# Altium schematic symbol library rest.SCHLIB: 42 symbols
Pins are listed as number, name and electrical type; pins without a type are passive.

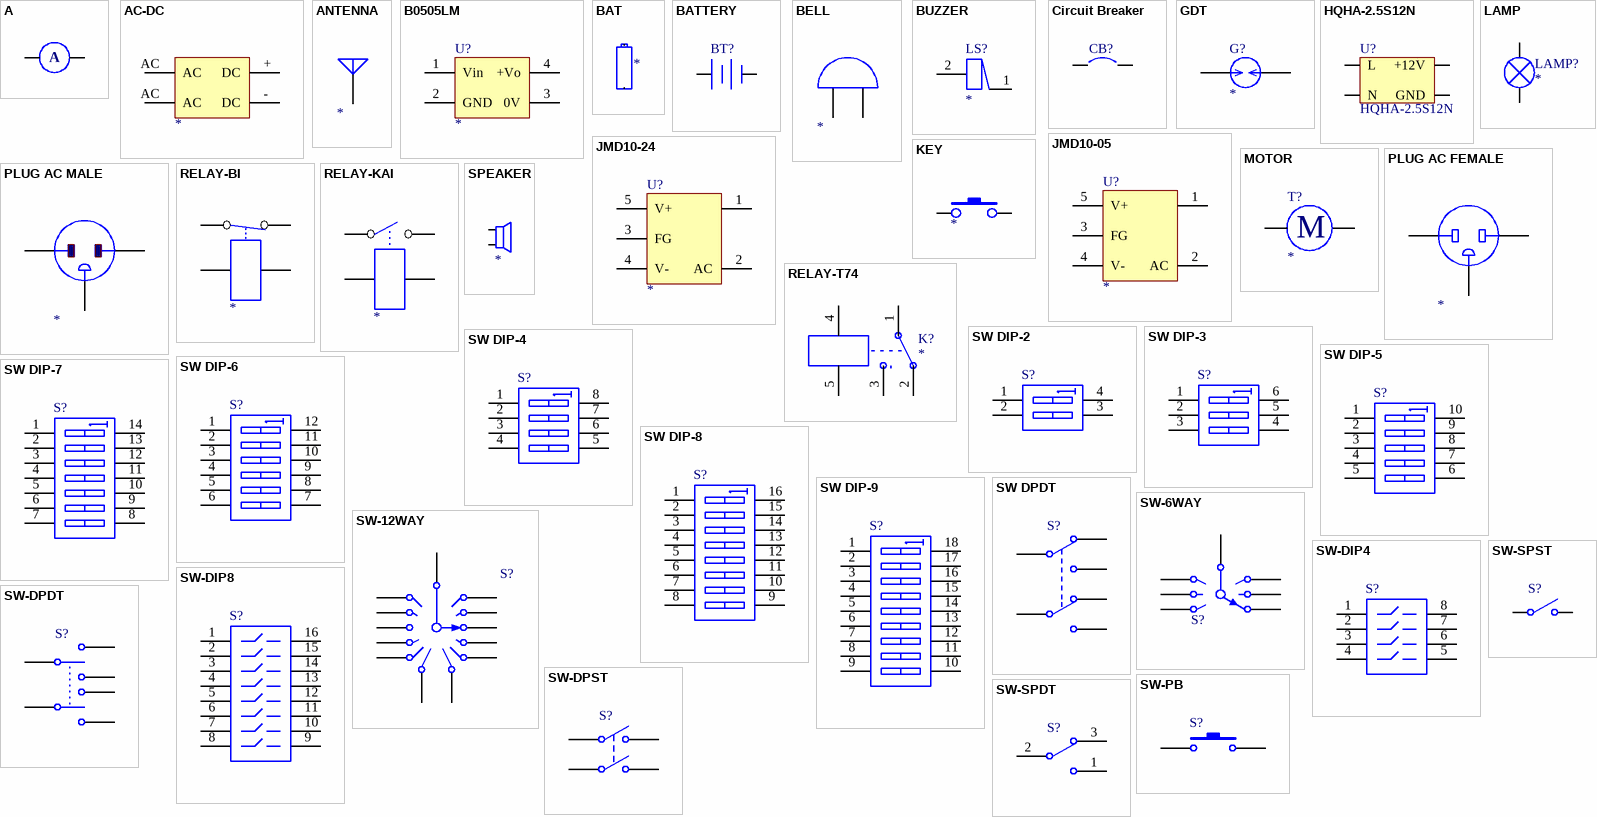
[diagram p0: symbols A to SW-SPST]

## A
designator A  (value not drawn)
pins: 1, 2

## AC-DC
designator ?
pins: + DC, - DC, AC, AC

## ANTENNA
designator ?
pins: 1 A

## B0505LM
designator U?
DC/DC隔离电源（Mornsun）
footprint B0505LM
pins: 1 Vin, 2 GND, 3 0V, 4 +Vo

## BAT
designator ?
pins: 1, 2, DC hidden to DC

## BATTERY
designator BT?
Multicell Battery; Published: 24-Mar-1999; LatestRevisionDate: 17-Jul-2002; LatestRevisionNote: Re-released for DXP Platform.; PackageReference: BAT-2; Publisher: Altium Limited
footprint BAT-2 (Multicell Battery; 2 Leads)
pins: 1 +, 2 -

## BELL
designator ?
pins: 1 A, 2 B

## BUZZER
designator LS?
footprint 24V-BUZZER
pins: 1 +, 2 -

## Circuit Breaker
designator CB?
Circuit Breaker; Published: 24-Mar-1999; LatestRevisionDate: 17-Jul-2002; LatestRevisionNote: Re-released for DXP Platform.; PackageReference: SPST-2; Publisher: Altium Limited
footprint SPST-2 (Circuit Breaker; 2 Leads)
pins: 1, 2

## GDT
designator G?
放电器
footprint GDT2
pins: 1, 2

## HQHA-2.5S12N
designator U?
Power
pins: 1 L, 2 N, 3 +12V, 4 GND

## JMD10-05
designator U?
CM-JMD10-05
pins: 1 AC, 2 AC, 3 FG, 4 V-, 5 V+

## JMD10-24
designator U?
CM-JMD10-24
pins: 1 AC, 2 AC, 3 FG, 4 V-, 5 V+

## KEY
designator ?
pins: 1, 2

## LAMP
designator LAMP?
pins: 1, 2

## MOTOR
designator T?
pins: 1, 2
text: M

## PLUG AC FEMALE
designator ?
pins: 1 A, 2 B, 3 GND

## PLUG AC MALE
designator ?
pins: 1 A, 2 B, 3 GND

## RELAY-BI
designator ?
pins: 1, 2, 3, 4

## RELAY-KAI
designator ?
pins: 1, 2, 3, 4

## RELAY-T74
designator K?
CN-RELAY-T74
footprint RELAY-T74
pins: 1, 2, 3, 4, 5

## SPEAKER
designator ?
pins: 1, 2

## SW DIP-2
designator S?
DIP Switch, 2 Position, SPST; Published: 24-Mar-1999; LatestRevisionDate: 17-Jul-2002; LatestRevisionNote: Re-released for DXP Platform.; PackageReference: DIP-4; Publisher: Altium Limited
footprint DIP-4 (DIP; 4 Leads; Row Spacing 7.62 mm; Pitch 2.54 mm)
simulation model dpsw2 (Spice Subcircuit)
pins: 1 A1, 2 A2, 3 B2, 4 B1

## SW DIP-3
designator S?
DIP Switch, 3 Position, SPST; Published: 24-Mar-1999; LatestRevisionDate: 17-Jul-2002; LatestRevisionNote: Re-released for DXP Platform.; PackageReference: DIP-6; Publisher: Altium Limited; Code_JEDEC: MO-001-AM
footprint DIP-6 (DIP; 6 Leads; Row Spacing 7.62 mm; Pitch 2.54 mm)
simulation model dpsw3 (Spice Subcircuit)
pins: 1 A1, 2 A2, 3 A3, 4 B3, 5 B2, 6 B1

## SW DIP-4
designator S?
DIP Switch, 4 Position, SPST; Published: 24-Mar-1999; LatestRevisionDate: 17-Jul-2002; LatestRevisionNote: Re-released for DXP Platform.; PackageReference: SO8; Publisher: Altium Limited; Code_JEDEC: MS-012-AA; Code_IPC: SO8
footprint SO8 (Small Outline; 8 Leads; Body Width 3.9 mm; Pitch 1.27 mm)
simulation model dpsw4 (Spice Subcircuit)
pins: 1 A1, 2 A2, 3 A3, 4 A4, 5 B4, 6 B3, 7 B2, 8 B1

## SW DIP-5
designator S?
DIP Switch, 5 Position, SPST; Published: 24-Mar-1999; LatestRevisionDate: 17-Jul-2002; LatestRevisionNote: Re-released for DXP Platform.; PackageReference: N10A; Publisher: Altium Limited
footprint N10A (DIP; 10 Leads; Row Spacing 7.62 mm; Pitch 2.54 mm)
simulation model dpsw5 (Spice Subcircuit)
pins: 1 A1, 2 A2, 3 A3, 4 A4, 5 A5, 6 B5, 7 B4, 8 B3, 9 B2, 10 B1

## SW DIP-6
designator S?
DIP Switch, 6 Position, SPST; Published: 24-Mar-1999; LatestRevisionDate: 17-Jul-2002; LatestRevisionNote: Re-released for DXP Platform.; PackageReference: DIP-12/SW; Publisher: Altium Limited
footprint DIP-12/SW (DIP Switch; 12 Leads)
simulation model dpsw6 (Spice Subcircuit)
pins: 1 A1, 2 A2, 3 A3, 4 A4, 5 A5, 6 A6, 7 B6, 8 B5, 9 B4, 10 B3, 11 B2, 12 B1

## SW DIP-7
designator S?
DIP Switch, 7 Position, SPST; Published: 24-Mar-1999; LatestRevisionDate: 17-Jul-2002; LatestRevisionNote: Re-released for DXP Platform.; PackageReference: DIP-14; Publisher: Altium Limited; Code_JEDEC: MO-001-AF
footprint DIP-14 (DIP; 14 Leads; Row Spacing 7.62 mm; Pitch 2.54 mm)
simulation model dpsw7 (Spice Subcircuit)
pins: 1 A1, 2 A2, 3 A3, 4 A4, 5 A5, 6 A6, 7 A7, 8 B7, 9 B6, 10 B5, 11 B4, 12 B3, 13 B2, 14 B1

## SW DIP-8
designator S?
DIP Switch, 8 Position, SPST; Published: 24-Mar-1999; LatestRevisionDate: 17-Jul-2002; LatestRevisionNote: Re-released for DXP Platform.; PackageReference: DIP_SW_8WAY_SMD; Publisher: Altium Limited
footprint DIP_SW_8WAY_SMD (DIP Switch; 16 Leads)
simulation model dpsw8 (Spice Subcircuit)
pins: 1 A1, 2 A2, 3 A3, 4 A4, 5 A5, 6 A6, 7 A7, 8 A8, 9 B8, 10 B7, 11 B6, 12 B5, 13 B4, 14 B3, 15 B2, 16 B1

## SW DIP-9
designator S?
DIP Switch, 9 Position, SPST; Published: 24-Mar-1999; LatestRevisionDate: 17-Jul-2002; LatestRevisionNote: Re-released for DXP Platform.; PackageReference: DIP-18; Publisher: Altium Limited; Code_JEDEC: MO-036-AE
footprint DIP-18 (DIP; 18 Leads; Row Spacing 7.62 mm; Pitch 2.54 mm)
simulation model dpsw9 (Spice Subcircuit)
pins: 1 A1, 2 A2, 3 A3, 4 A4, 5 A5, 6 A6, 7 A7, 8 A8, 9 A9, 10 B9, 11 B8, 12 B7, 13 B6, 14 B5, 15 B4, 16 B3, 17 B2, 18 B1

## SW DPDT
designator S?
Switch; Published: 24-Mar-1999; LatestRevisionDate: 17-Jul-2002; LatestRevisionNote: Re-released for DXP Platform.; PackageReference: SOT23-6; Publisher: Altium Limited
footprint SOT23-6 (SOT-23/SC-74A; 5 Leads; Body 3.1 x 3 mm, inc. leads (LxW max))
pins: 1 COMMON1, 2 NC1, 3 NO1, 4 NC2, 5 COMMON2, 6 NO2

## SW-6WAY
designator S?
6 Way Switch; Published: 24-Mar-1999; LatestRevisionDate: 17-Jul-2002; LatestRevisionNote: Re-released for DXP Platform.; PackageReference: SW-7; Publisher: Altium Limited
footprint SW-7 (6 Way Switch; 7 Leads)
pins: 1, 2, 3, 4, 5, 6, 7

## SW-12WAY
designator S?
12 Way Switch; Published: 24-Mar-1999; LatestRevisionDate: 17-Jul-2002; LatestRevisionNote: Re-released for DXP Platform.; PackageReference: DIP-13(14); Publisher: Altium Limited
footprint DIP-13(14) (DIP; 14 Leads (1 Absent); Row Spacing 7.62 mm; Pitch 2.54 mm)
pins: 1, 2, 3, 5, 6, 7, 8, 9, 10, 11, 12, 13, 14

## SW-DIP4
designator S?
DIP Switch; Published: 24-Mar-1999; LatestRevisionDate: 17-Jul-2002; LatestRevisionNote: Re-released for DXP Platform.; PackageReference: DIP-8; Publisher: Altium Limited
footprint DIP-8 (DIP; 8 Leads; Row Spacing 7.62 mm; Pitch 2.54 mm)
simulation model dpsw4 (Spice Subcircuit)
pins: 1, 2, 3, 4, 5, 6, 7, 8

## SW-DIP8
designator S?
4009 Series DIP Switch, Raised actuator; Published: 24-Mar-1999; LatestRevisionDate: 17-Dec-2003; LatestRevisionNote: PCB Footprint replaced.; PackageReference: DIP-16-KEY; Publisher: Altium Limited; ComponentLink1Description: Manufacturer Link; ComponentLink1URL: http://www.oupiin.com/prodindx.html#Headers
footprint DIP-16-KEY (DIP; 16 Leads; Row Spacing 7.62 mm; Pitch 2.54 mm)
simulation model dpsw8 (Spice Subcircuit)
pins: 1, 2, 3, 4, 5, 6, 7, 8, 9, 10, 11, 12, 13, 14, 15, 16

## SW-DPDT
designator S?
Double-Pole, Double-Throw Switch; Published: 24-Mar-1999; LatestRevisionDate: 17-Jul-2002; LatestRevisionNote: Re-released for DXP Platform.; PackageReference: DPDT-6; Publisher: Altium Limited
footprint DPDT-6 (Double-Pole, Double-Throw Switch; 6 Leads)
pins: 1, 2, 3, 4, 5, 6

## SW-DPST
designator S?
Double-Pole, Single-Throw Switch; Published: 24-Mar-1999; LatestRevisionDate: 17-Jul-2002; LatestRevisionNote: Re-released for DXP Platform.; PackageReference: DPST-4; Publisher: Altium Limited
footprint DPST-4 (Double-Pole, Single-Throw Switch; 4 Leads)
pins: 1 COMMON1, 2 NO1, 3 COMMON2, 4 NO2

## SW-PB
designator S?
Switch; Published: 24-Mar-1999; LatestRevisionDate: 17-Jul-2002; LatestRevisionNote: Re-released for DXP Platform.; PackageReference: SPST-2; Publisher: Altium Limited
footprint SPST-2 (Switch; 2 Leads)
pins: 1, 2

## SW-SPDT
designator S?
SPDT Subminiature Toggle Switch, Right Angle Mounting, Vertical Actuation; Published: 24-Mar-1999; LatestRevisionDate: 17-Dec-2003; LatestRevisionNote: Schematic revised, PCB Footprint replaced.; DatasheetDocument: 05-Dec-2000; PackageReference: TL36WW15050; Publisher: Altium Limited; ComponentLink1Description: Manufacturer Link; ComponentLink1URL: http://www.apem.com
footprint TL36WW15050 (SPDT Subminiature Toggle Switch, Right Angle Mounting, Vertical Actuation)
pins: 1, 2, 3

## SW-SPST
designator S?
Single-Pole, Single-Throw Switch; Published: 24-Mar-1999; LatestRevisionDate: 17-Jul-2002; LatestRevisionNote: Re-released for DXP Platform.; PackageReference: SPST-2; Publisher: Altium Limited
footprint SPST-2 (Single-Pole, Single-Throw Switch; 2 Leads)
pins: 1 COMMON, 2 NO

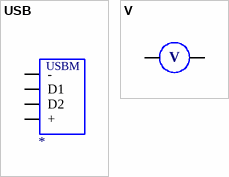
[diagram p1: symbols USB to V]

## USB
designator ?
pins: +, -, D1, D2
text: USBM

## V
designator V  (value not drawn)
pins: 1, 2